# Altium footprint library SMD-5032_4P.PcbLib: 1 footprints
Each footprint in its own frame and in the unit in brackets; x right, y up, seen from the top. Pads: shape width x height; smd on the part's side, far side on the other; paste and mask are expansions set on the pad; w line width, h text height; cw(c..) or ccw(c..) is an arc to the next point about the centre after c.
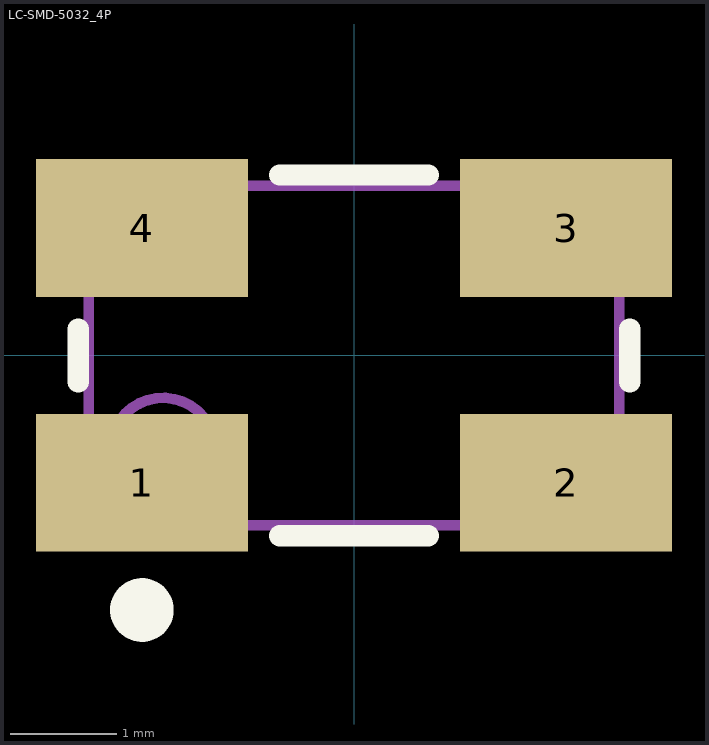
[diagram p0: the footprint, top view; thin cyan lines are the x and y axes]

## LC-SMD-5032_4P [mm]
pads (4):
  rect 2x1.3 smd: 1(-2,-1.2) 2(2,-1.2) 3(2,1.2) 4(-2,1.2)
Top Overlay:
  circle w0.3: c-2,-2.4 r0.15
  lines w0.2: -2.6,-0.25 -2.6,0.25 ; -0.7,-1.7 0.7,-1.7 ; -0.7,1.7 0.7,1.7 ; 2.6,-0.25 2.6,0.25
Mechanical 13:
  circle w0.1: c-1.8,-0.9 r0.5
  lines w0.1: -2.5,-1.6 -2.5,1.6 2.5,1.6 2.5,-1.6 -2.5,-1.6